# Altium footprint library vitech_capacitors.PcbLib: 28 footprints (part 2 of 2)
Each footprint in its own frame and in the unit in brackets; x right, y up, seen from the top. Pads: shape width x height; smd on the part's side, far side on the other; paste and mask are expansions set on the pad; w line width, h text height; cw(c..) or ccw(c..) is an arc to the next point about the centre after c.
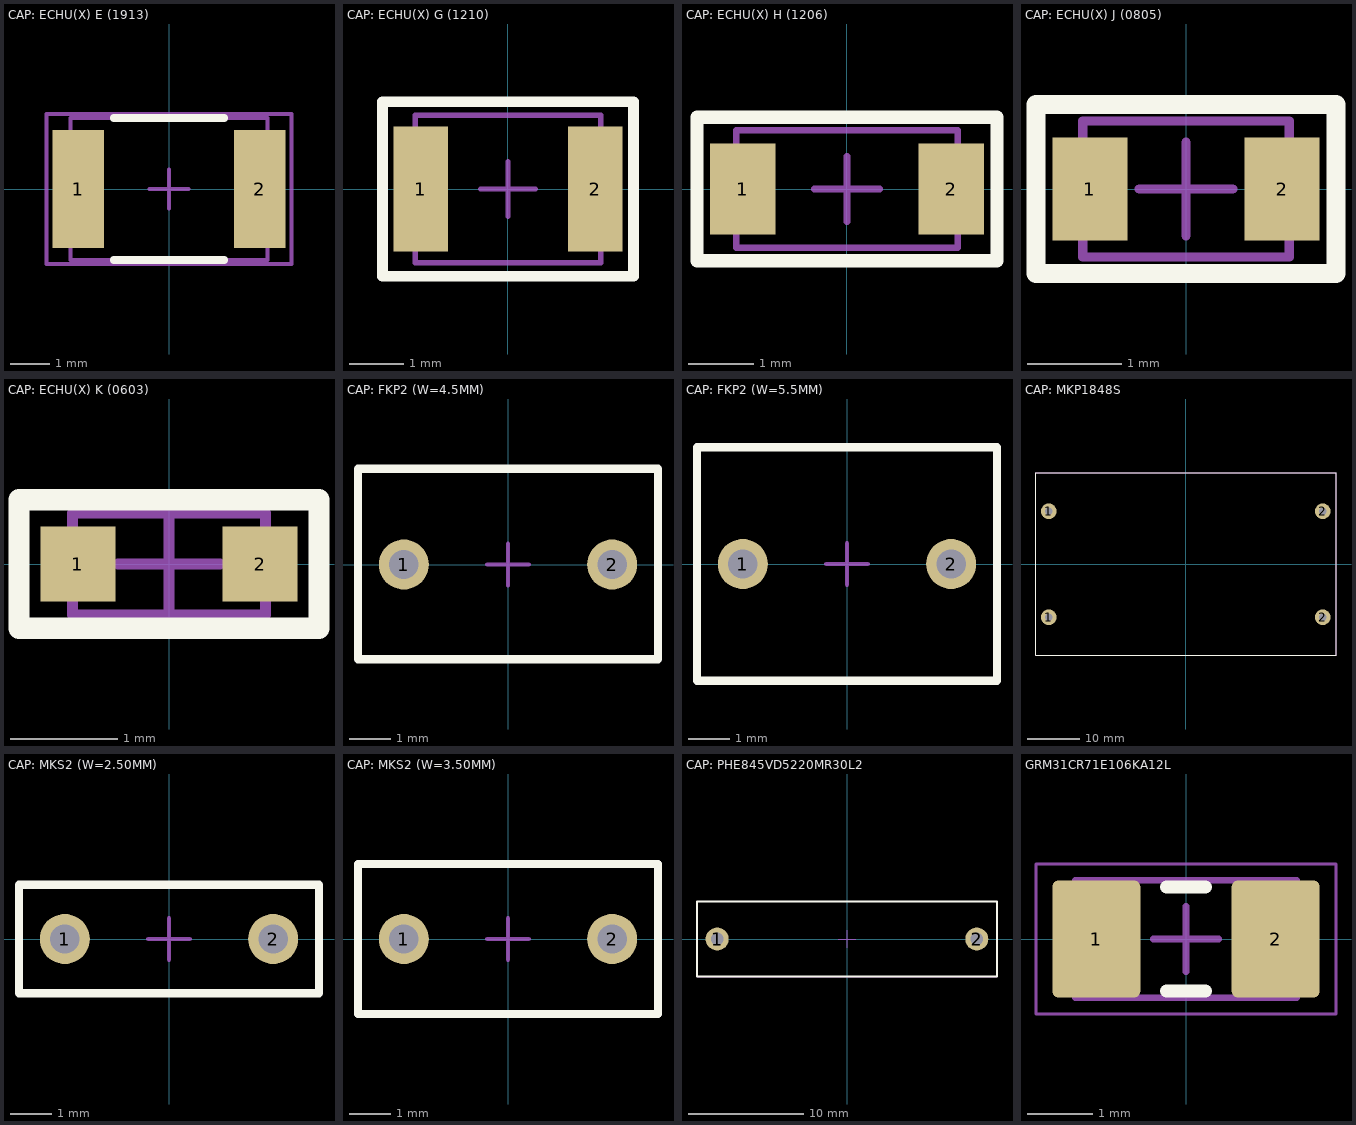
[diagram p1: the footprints below, top view; thin cyan lines are the x and y axes]

## CAP: ECHU(X) E (1913) [mm]
height 2.1
pads (2):
  rect 1.3x3 smd: 1(-2.3,0) 2(2.3,0)
Top Overlay:
  lines w0.2: -1.4,-1.8 1.4,-1.8 ; -1.4,1.8 1.4,1.8
Mechanical 1:
  lines w0.1: -2.5,-1.8 -2.5,1.8 2.5,1.8 2.5,-1.8 -2.5,-1.8
Mechanical 15:
  lines w0.1: -0.5,0 0.5,0 ; 0,-0.5 0,0.5 ; -3.1,-1.9 -3.1,1.9 3.1,1.9 3.1,-1.9 -3.1,-1.9
3D body: height 2.1, standoff 0, extent -1.7,-1.8 1.7,1.8
3D body: height 2.1, standoff 0, extent -2.5,-1.8 -1.7,1.8
3D body: height 2.1, standoff 0, extent 1.7,-1.8 2.5,1.8

## CAP: ECHU(X) G (1210) [mm]
height 2.1
pads (2):
  rect 1x2.3 smd: 1(-1.6,0) 2(1.6,0)
Top Overlay:
  lines w0.2: -2.3,-1.6 -2.3,1.6 2.3,1.6 2.3,-1.6 -2.3,-1.6
Mechanical 1:
  lines w0.1: -1.7,-1.35 1.7,-1.35 1.7,1.35 -1.7,1.35 -1.7,-1.35
Mechanical 15:
  lines w0.1: -0.5,0 0.5,0 ; 0,-0.5 0,0.5 ; -2.3,-1.6 2.3,-1.6 2.3,1.6 -2.3,1.6 -2.3,-1.6
3D body: height 2.1, standoff 0, extent 1.05,-1.35 1.7,1.35
3D body: height 2.1, standoff 0, extent -1.7,-1.35 -1.05,1.35
3D body: height 2.1, standoff 0, extent -1.05,-1.35 1.05,1.35

## CAP: ECHU(X) H (1206) [mm]
height 1.5
pads (2):
  rect 1x1.4 smd: 1(-1.6,0) 2(1.6,0)
Top Overlay:
  lines w0.2: -2.3,-1.1 2.3,-1.1 2.3,1.1 -2.3,1.1 -2.3,-1.1
Mechanical 1:
  lines w0.1: -1.7,-0.9 1.7,-0.9 1.7,0.9 -1.7,0.9 -1.7,-0.9
Mechanical 15:
  lines w0.1: -0.5,0 0.5,0 ; 0,-0.5 0,0.5 ; -2.3,-1.1 2.3,-1.1 2.3,1.1 -2.3,1.1 -2.3,-1.1
3D body: height 1.5, standoff 0, extent 1.05,-0.9 1.7,0.9
3D body: height 1.5, standoff 0, extent -1.7,-0.9 -1.05,0.9
3D body: height 1.5, standoff 0, extent -1.05,-0.9 1.05,0.9

## CAP: ECHU(X) J (0805) [mm]
height 1.1
pads (2):
  rect 0.8x1.1 smd: 1(-1.025,0) 2(1.025,0)
Top Overlay:
  lines w0.2: -1.6,-0.9 -1.6,0.9 1.6,0.9 1.6,-0.9 -1.6,-0.9
Mechanical 1:
  lines w0.1: -1.1,-0.725 1.1,-0.725 1.1,0.725 -1.1,0.725 -1.1,-0.725
Mechanical 15:
  lines w0.1: -0.5,0 0.5,0 ; 0,-0.5 0,0.5 ; -1.6,-0.9 1.6,-0.9 1.6,0.9 -1.6,0.9 -1.6,-0.9
3D body: height 1.1, standoff 0, extent 0.67,-0.725 1.1,0.725
3D body: height 1.1, standoff 0, extent -1.1,-0.725 -0.67,0.725
3D body: height 1.1, standoff 0, extent -0.67,-0.725 0.67,0.725

## CAP: ECHU(X) K (0603) [mm]
height 0.7
pads (2):
  rect 0.7x0.7 smd: 1(-0.85,0) 2(0.85,0)
Top Overlay:
  lines w0.2: -1.4,-0.6 -1.4,0.6 1.4,0.6 1.4,-0.6 -1.4,-0.6
Mechanical 1:
  lines w0.1: -0.9,-0.475 0.9,-0.475 0.9,0.475 -0.9,0.475 -0.9,-0.475
Mechanical 15:
  lines w0.1: -0.475,0 0.475,0 ; 0,-0.475 0,0.475 ; -1.4,-0.6 1.4,-0.6 1.4,0.6 -1.4,0.6 -1.4,-0.6
3D body: height 0.7, standoff 0, extent 0.55,-0.475 0.9,0.475
3D body: height 0.7, standoff 0, extent -0.9,-0.475 -0.55,0.475
3D body: height 0.7, standoff 0, extent -0.55,-0.475 0.55,0.475

## CAP: FKP2 (W=4.5MM) [mm]
pads (2):
  round 1.2 hole 0.7: 1(-2.5,0) 2(2.5,0)
Top Overlay:
  lines w0.2: -3.6,-2.275 3.6,-2.275 3.6,2.3 0.5,2.3 -3.6,2.3 -3.6,-2.275
Mechanical 15:
  lines w0.1: -0.5,0 0.5,0 ; 0,-0.5 0,0.5 ; -3.6,-2.275 3.6,-2.275 3.6,2.3 -3.6,2.3 -3.6,-2.275
3D body "FILM_RED_P500L720W450H600PD50.step": height 6, standoff -6.2, extent -3.6,-2.25 3.6,2.25

## CAP: FKP2 (W=5.5MM) [mm]
pads (2):
  round 1.2 hole 0.7: 1(-2.5,0) 2(2.5,0)
Top Overlay:
  lines w0.2: -3.6,-2.8 -3.6,2.8 1,2.8 3.6,2.8 3.6,-2.8 -3.6,-2.8
Mechanical 15:
  lines w0.1: -0.5,0 0.5,0 ; 0,-0.5 0,0.5 ; -3.6,-2.8 3.6,-2.8 3.6,2.8 -3.6,2.8 -3.6,-2.8
3D body "FILM_RED_P500L720W550H700PD50.step": height 7, standoff -6.2, extent -3.6,-2.75 3.6,2.75

## CAP: MKP1848S [mm]
pads (4):
  round 3 hole 1.4: 1(-26.3,-10.2) 1(-26.3,10.1) 2(26.2,-10.2) 2(26.2,10.1)
Top Overlay:
  lines w0.2: -28.75,-17.5 -28.75,17.5 28.75,17.5 28.75,-17.5 -28.75,-17.5
Mechanical 1:
  lines w0.1: -28.75,-17.5 -28.75,17.5 28.75,17.5 28.75,-17.5 -28.75,-17.5
Mechanical 15:
  lines w0.1: -28.75,-17.5 -28.75,17.5 28.75,17.5 28.75,-17.5 -28.75,-17.5
3D body "mkp18film.STEP": height 18.2, standoff -5.8, extent -28.75,-17.5 28.75,17.5

## CAP: MKS2 (W=2.50MM) [mm]
pads (2):
  round 1.2 hole 0.7: 1(-2.5,0) 2(2.5,0)
Top Overlay:
  lines w0.2: -3.6,-1.3 3.6,-1.3 3.6,1.3 1.5,1.3 -3.6,1.3 -3.6,-1.3
Mechanical 15:
  lines w0.1: -0.5,0 0.5,0 ; 0,-0.5 0,0.5 ; -3.6,-1.3 -3.6,1.3 3.6,1.3 3.6,-1.3 -3.6,-1.3
3D body "FILM_RED_P500L720W250H650PD50.step": height 6.5, standoff -6.2, extent -3.6,-1.25 3.6,1.25

## CAP: MKS2 (W=3.50MM) [mm]
pads (2):
  round 1.2 hole 0.7: 1(-2.5,0) 2(2.5,0)
Top Overlay:
  lines w0.2: -3.6,-1.8 -2.8,-1.8 2.2,-1.8 3.6,-1.8 3.6,1.8 2,1.8 -3.6,1.8 -3.6,-1.8
Mechanical 15:
  lines w0.1: -0.5,0 0.5,0 ; 0,-0.5 0,0.5 ; -3.6,-1.8 -3.6,1.8 3.6,1.8 3.6,-1.8 -3.6,-1.8
3D body "FILM_RED_P500L720W350H850PD50.step": height 8.5, standoff -6.2, extent -3.6,-1.75 3.6,1.75

## CAP: PHE845VD5220MR30L2 [mm]
pads (2):
  round 2 hole 1.1: 1(-11.25,-0.003) 2(11.25,-0.003)
Top Overlay:
  lines w0.2: -13,-3.253 13,-3.253 13,3.253 -13,3.253 -13,-3.253
Mechanical 1:
  lines w0.1: -13,-3.253 -13,3.253 13,3.253 13,-3.253 -13,-3.253
Mechanical 15:
  lines w0.1: -0.75,-0.003 0.75,-0.003 ; 0,-0.75 0,0.75 ; -13,-3.253 -13,3.253 13,3.253 13,-3.253 -13,-3.253
3D body "���.STEP": height 14.55, standoff -3.95, extent -13,-3.253 13,3.253

## GRM31CR71E106KA12L [mm]
pads (2):
  rrect15% 1.35x1.8 smd mask+0.05: 1(-1.375,0) 2(1.375,0)
Top Overlay:
  lines w0.2: -0.3,-0.8 0.3,-0.8 ; -0.3,0.8 0.3,0.8
Assembly:
  rectangle: -1.7,-0.9 -1.2,0.9
  region: 1.7,0.9 1.2,0.9 1.2,-0.9 1.7,-0.9
  lines w0.1: -1.7,-0.9 1.7,-0.9 1.7,0.9 -1.7,0.9 -1.7,-0.9
Mechanical 15:
  lines w0.05: -2.3,-1.15 2.3,-1.15 2.3,1.15 -2.3,1.15 -2.3,-1.15
  lines w0.1: -0.5,0 0.5,0 ; 0,-0.5 0,0.5
Mechanical 17:
  text ".Designator" at -1.729,2.274 h0.5
Mechanical 19:
  text ".Comment" at -1.729,1.624 h0.5
3D body "C1206(3216)085T15.STEP": height 1, standoff 0, extent -1.7,-0.9 1.7,0.9